# EAGLE library part APS_HPC_M (library flipbit_fmc)
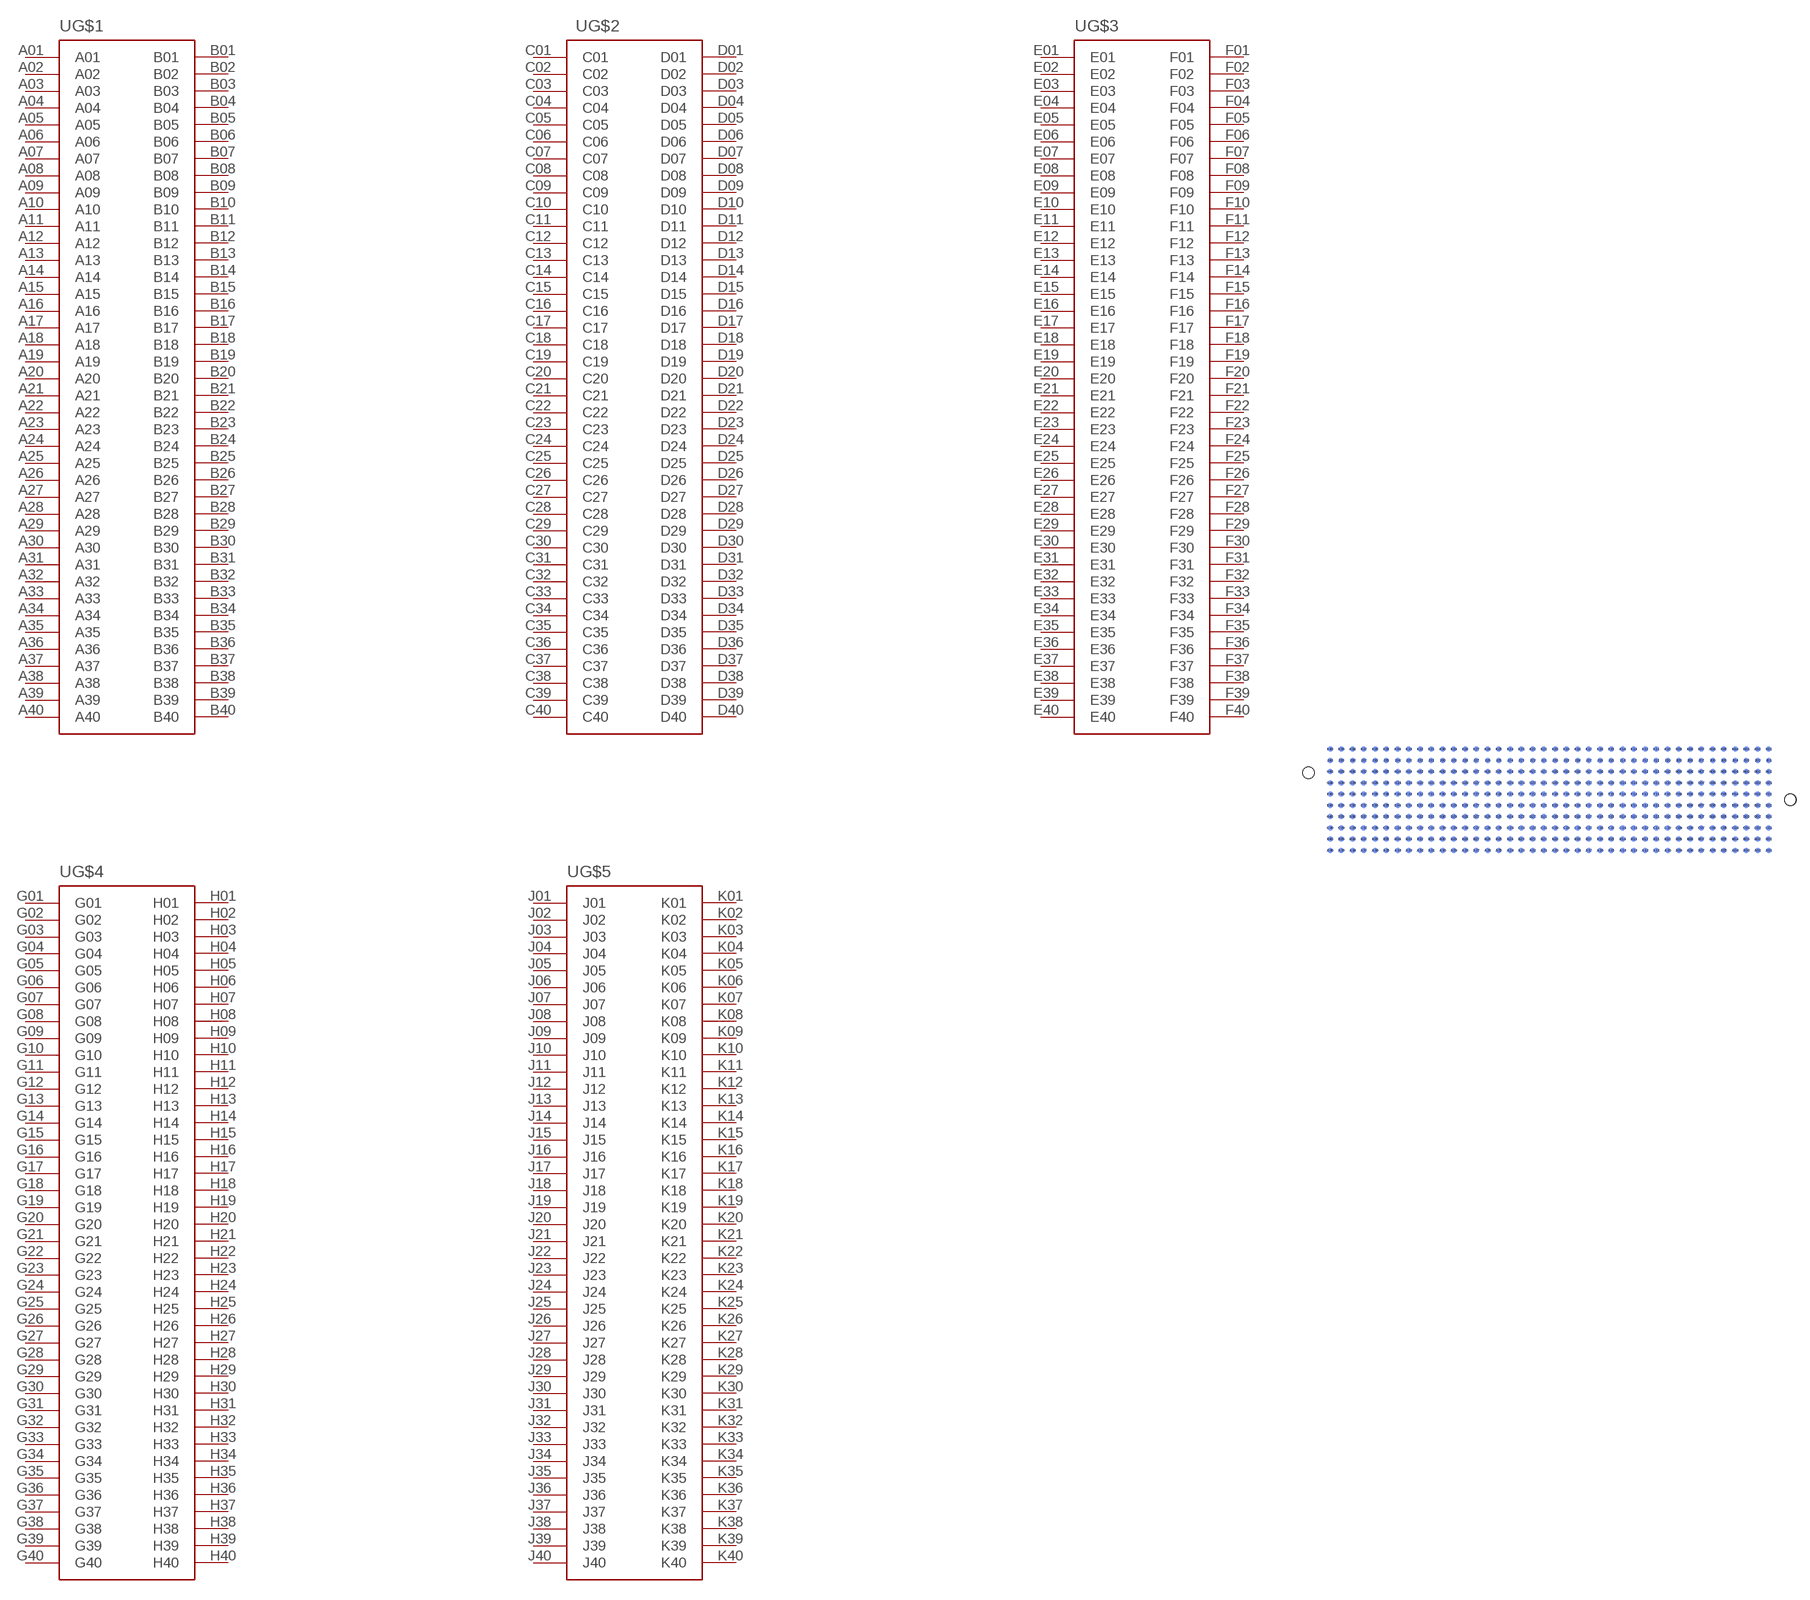
[diagram p3: symbol with the pads of ASP-134488-01; footprint ASP-134488-01]

Designator prefix -; gates G$1=ASP_AB G$2=ASP_CD G$3=ASP_EF G$4=ASP_GH G$5=ASP_JK

## APS_HPC_M  [ASP-134488-01]
A01  G$1:A01
A02  G$1:A02
A03  G$1:A03
A04  G$1:A04
A05  G$1:A05
A06  G$1:A06
A07  G$1:A07
A08  G$1:A08
A09  G$1:A09
A10  G$1:A10
A11  G$1:A11
A12  G$1:A12
A13  G$1:A13
A14  G$1:A14
A15  G$1:A15
A16  G$1:A16
A17  G$1:A17
A18  G$1:A18
A19  G$1:A19
A20  G$1:A20
A21  G$1:A21
A22  G$1:A22
A23  G$1:A23
A24  G$1:A24
A25  G$1:A25
A26  G$1:A26
A27  G$1:A27
A28  G$1:A28
A29  G$1:A29
A30  G$1:A30
A31  G$1:A31
A32  G$1:A32
A33  G$1:A33
A34  G$1:A34
A35  G$1:A35
A36  G$1:A36
A37  G$1:A37
A38  G$1:A38
A39  G$1:A39
A40  G$1:A40
B01  G$1:B01
B02  G$1:B02
B03  G$1:B03
B04  G$1:B04
B05  G$1:B05
B06  G$1:B06
B07  G$1:B07
B08  G$1:B08
B09  G$1:B09
B10  G$1:B10
B11  G$1:B11
B12  G$1:B12
B13  G$1:B13
B14  G$1:B14
B15  G$1:B15
B16  G$1:B16
B17  G$1:B17
B18  G$1:B18
B19  G$1:B19
B20  G$1:B20
B21  G$1:B21
B22  G$1:B22
B23  G$1:B23
B24  G$1:B24
B25  G$1:B25
B26  G$1:B26
B27  G$1:B27
B28  G$1:B28
B29  G$1:B29
B30  G$1:B30
B31  G$1:B31
B32  G$1:B32
B33  G$1:B33
B34  G$1:B34
B35  G$1:B35
B36  G$1:B36
B37  G$1:B37
B38  G$1:B38
B39  G$1:B39
B40  G$1:B40
C01  G$2:C01
C02  G$2:C02
C03  G$2:C03
C04  G$2:C04
C05  G$2:C05
C06  G$2:C06
C07  G$2:C07
C08  G$2:C08
C09  G$2:C09
C10  G$2:C10
C11  G$2:C11
C12  G$2:C12
C13  G$2:C13
C14  G$2:C14
C15  G$2:C15
C16  G$2:C16
C17  G$2:C17
C18  G$2:C18
C19  G$2:C19
C20  G$2:C20
C21  G$2:C21
C22  G$2:C22
C23  G$2:C23
C24  G$2:C24
C25  G$2:C25
C26  G$2:C26
C27  G$2:C27
C28  G$2:C28
C29  G$2:C29
C30  G$2:C30
C31  G$2:C31
C32  G$2:C32
C33  G$2:C33
C34  G$2:C34
C35  G$2:C35
C36  G$2:C36
C37  G$2:C37
C38  G$2:C38
C39  G$2:C39
C40  G$2:C40
D01  G$2:D01
D02  G$2:D02
D03  G$2:D03
D04  G$2:D04
D05  G$2:D05
D06  G$2:D06
D07  G$2:D07
D08  G$2:D08
D09  G$2:D09
D10  G$2:D10
D11  G$2:D11
D12  G$2:D12
D13  G$2:D13
D14  G$2:D14
D15  G$2:D15
D16  G$2:D16
D17  G$2:D17
D18  G$2:D18
D19  G$2:D19
D20  G$2:D20
D21  G$2:D21
D22  G$2:D22
D23  G$2:D23
D24  G$2:D24
D25  G$2:D25
D26  G$2:D26
D27  G$2:D27
D28  G$2:D28
D29  G$2:D29
D30  G$2:D30
D31  G$2:D31
D32  G$2:D32
D33  G$2:D33
D34  G$2:D34
D35  G$2:D35
D36  G$2:D36
D37  G$2:D37
D38  G$2:D38
D39  G$2:D39
D40  G$2:D40
E01  G$3:E01
E02  G$3:E02
E03  G$3:E03
E04  G$3:E04
E05  G$3:E05
E06  G$3:E06
E07  G$3:E07
E08  G$3:E08
E09  G$3:E09
E10  G$3:E10
E11  G$3:E11
E12  G$3:E12
E13  G$3:E13
E14  G$3:E14
E15  G$3:E15
E16  G$3:E16
E17  G$3:E17
E18  G$3:E18
E19  G$3:E19
E20  G$3:E20
E21  G$3:E21
E22  G$3:E22
E23  G$3:E23
E24  G$3:E24
E25  G$3:E25
E26  G$3:E26
E27  G$3:E27
E28  G$3:E28
E29  G$3:E29
E30  G$3:E30
E31  G$3:E31
E32  G$3:E32
E33  G$3:E33
E34  G$3:E34
E35  G$3:E35
E36  G$3:E36
E37  G$3:E37
E38  G$3:E38
E39  G$3:E39
E40  G$3:E40
F01  G$3:F01
F02  G$3:F02
F03  G$3:F03
F04  G$3:F04
F05  G$3:F05
F06  G$3:F06
F07  G$3:F07
F08  G$3:F08
F09  G$3:F09
F10  G$3:F10
F11  G$3:F11
F12  G$3:F12
F13  G$3:F13
F14  G$3:F14
F15  G$3:F15
F16  G$3:F16
F17  G$3:F17
F18  G$3:F18
F19  G$3:F19
F20  G$3:F20
F21  G$3:F21
F22  G$3:F22
F23  G$3:F23
F24  G$3:F24
F25  G$3:F25
F26  G$3:F26
F27  G$3:F27
F28  G$3:F28
F29  G$3:F29
F30  G$3:F30
F31  G$3:F31
F32  G$3:F32
F33  G$3:F33
F34  G$3:F34
F35  G$3:F35
F36  G$3:F36
F37  G$3:F37
F38  G$3:F38
F39  G$3:F39
F40  G$3:F40
G01  G$4:G01
G02  G$4:G02
G03  G$4:G03
G04  G$4:G04
G05  G$4:G05
G06  G$4:G06
G07  G$4:G07
G08  G$4:G08
G09  G$4:G09
G10  G$4:G10
G11  G$4:G11
G12  G$4:G12
G13  G$4:G13
G14  G$4:G14
G15  G$4:G15
G16  G$4:G16
G17  G$4:G17
G18  G$4:G18
G19  G$4:G19
G20  G$4:G20
G21  G$4:G21
G22  G$4:G22
G23  G$4:G23
G24  G$4:G24
G25  G$4:G25
G26  G$4:G26
G27  G$4:G27
G28  G$4:G28
G29  G$4:G29
G30  G$4:G30
G31  G$4:G31
G32  G$4:G32
G33  G$4:G33
G34  G$4:G34
G35  G$4:G35
G36  G$4:G36
G37  G$4:G37
G38  G$4:G38
G39  G$4:G39
G40  G$4:G40
H01  G$4:H01
H02  G$4:H02
H03  G$4:H03
H04  G$4:H04
H05  G$4:H05
H06  G$4:H06
H07  G$4:H07
H08  G$4:H08
H09  G$4:H09
H10  G$4:H10
H11  G$4:H11
H12  G$4:H12
H13  G$4:H13
H14  G$4:H14
H15  G$4:H15
H16  G$4:H16
H17  G$4:H17
H18  G$4:H18
H19  G$4:H19
H20  G$4:H20
H21  G$4:H21
H22  G$4:H22
H23  G$4:H23
H24  G$4:H24
H25  G$4:H25
H26  G$4:H26
H27  G$4:H27
H28  G$4:H28
H29  G$4:H29
H30  G$4:H30
H31  G$4:H31
H32  G$4:H32
H33  G$4:H33
H34  G$4:H34
H35  G$4:H35
H36  G$4:H36
H37  G$4:H37
H38  G$4:H38
H39  G$4:H39
H40  G$4:H40
J01  G$5:J01
J02  G$5:J02
J03  G$5:J03
J04  G$5:J04
J05  G$5:J05
J06  G$5:J06
J07  G$5:J07
J08  G$5:J08
J09  G$5:J09
J10  G$5:J10
J11  G$5:J11
J12  G$5:J12
J13  G$5:J13
J14  G$5:J14
J15  G$5:J15
J16  G$5:J16
J17  G$5:J17
J18  G$5:J18
J19  G$5:J19
J20  G$5:J20
J21  G$5:J21
J22  G$5:J22
J23  G$5:J23
J24  G$5:J24
J25  G$5:J25
J26  G$5:J26
J27  G$5:J27
J28  G$5:J28
J29  G$5:J29
J30  G$5:J30
J31  G$5:J31
J32  G$5:J32
J33  G$5:J33
J34  G$5:J34
J35  G$5:J35
J36  G$5:J36
J37  G$5:J37
J38  G$5:J38
J39  G$5:J39
J40  G$5:J40
K01  G$5:K01
K02  G$5:K02
K03  G$5:K03
K04  G$5:K04
K05  G$5:K05
K06  G$5:K06
K07  G$5:K07
K08  G$5:K08
K09  G$5:K09
K10  G$5:K10
K11  G$5:K11
K12  G$5:K12
K13  G$5:K13
K14  G$5:K14
K15  G$5:K15
K16  G$5:K16
K17  G$5:K17
K18  G$5:K18
K19  G$5:K19
K20  G$5:K20
K21  G$5:K21
K22  G$5:K22
K23  G$5:K23
K24  G$5:K24
K25  G$5:K25
K26  G$5:K26
K27  G$5:K27
K28  G$5:K28
K29  G$5:K29
K30  G$5:K30
K31  G$5:K31
K32  G$5:K32
K33  G$5:K33
K34  G$5:K34
K35  G$5:K35
K36  G$5:K36
K37  G$5:K37
K38  G$5:K38
K39  G$5:K39
K40  G$5:K40

## Footprint ASP-134488-01 (pad centres in mm)
smd 0.635 x 0.635 bottom: A01 24.765,-5.715; A02 23.495,-5.715; A03 22.225,-5.715; A04 20.955,-5.715; A05 19.685,-5.715; A06 18.415,-5.715; A07 17.145,-5.715; A08 15.875,-5.715; A09 14.605,-5.715; A10 13.335,-5.715; A11 12.065,-5.715; A12 10.795,-5.715; A13 9.525,-5.715; A14 8.255,-5.715; A15 6.985,-5.715; A16 5.715,-5.715; A17 4.445,-5.715; A18 3.175,-5.715; A19 1.905,-5.715; A20 0.635,-5.715; A21 -0.635,-5.715; A22 -1.905,-5.715; A23 -3.175,-5.715; A24 -4.445,-5.715; A25 -5.715,-5.715; A26 -6.985,-5.715; A27 -8.255,-5.715; A28 -9.525,-5.715; A29 -10.795,-5.715; A30 -12.065,-5.715; A31 -13.335,-5.715; A32 -14.605,-5.715; A33 -15.875,-5.715; A34 -17.145,-5.715; A35 -18.415,-5.715; A36 -19.685,-5.715; A37 -20.955,-5.715; A38 -22.225,-5.715; A39 -23.495,-5.715; A40 -24.765,-5.715; B01 24.765,-4.445; B02 23.495,-4.445; B03 22.225,-4.445; B04 20.955,-4.445; B05 19.685,-4.445; B06 18.415,-4.445; B07 17.145,-4.445; B08 15.875,-4.445; B09 14.605,-4.445; B10 13.335,-4.445; B11 12.065,-4.445; B12 10.795,-4.445; B13 9.525,-4.445; B14 8.255,-4.445; B15 6.985,-4.445; B16 5.715,-4.445; B17 4.445,-4.445; B18 3.175,-4.445; B19 1.905,-4.445; B20 0.635,-4.445; B21 -0.635,-4.445; B22 -1.905,-4.445; B23 -3.175,-4.445; B24 -4.445,-4.445; B25 -5.715,-4.445; B26 -6.985,-4.445; B27 -8.255,-4.445; B28 -9.525,-4.445; B29 -10.795,-4.445; B30 -12.065,-4.445; B31 -13.335,-4.445; B32 -14.605,-4.445; B33 -15.875,-4.445; B34 -17.145,-4.445; B35 -18.415,-4.445; B36 -19.685,-4.445; B37 -20.955,-4.445; B38 -22.225,-4.445; B39 -23.495,-4.445; B40 -24.765,-4.445; C01 24.765,-3.175; C02 23.495,-3.175; C03 22.225,-3.175; C04 20.955,-3.175; C05 19.685,-3.175; C06 18.415,-3.175; C07 17.145,-3.175; C08 15.875,-3.175; C09 14.605,-3.175; C10 13.335,-3.175; C11 12.065,-3.175; C12 10.795,-3.175; C13 9.525,-3.175; C14 8.255,-3.175; C15 6.985,-3.175; C16 5.715,-3.175; C17 4.445,-3.175; C18 3.175,-3.175; C19 1.905,-3.175; C20 0.635,-3.175; C21 -0.635,-3.175; C22 -1.905,-3.175; C23 -3.175,-3.175; C24 -4.445,-3.175; C25 -5.715,-3.175; C26 -6.985,-3.175; C27 -8.255,-3.175; C28 -9.525,-3.175; C29 -10.795,-3.175; C30 -12.065,-3.175; C31 -13.335,-3.175; C32 -14.605,-3.175; C33 -15.875,-3.175; C34 -17.145,-3.175; C35 -18.415,-3.175; C36 -19.685,-3.175; C37 -20.955,-3.175; C38 -22.225,-3.175; C39 -23.495,-3.175; C40 -24.765,-3.175; D01 24.765,-1.905; D02 23.495,-1.905; D03 22.225,-1.905; D04 20.955,-1.905; D05 19.685,-1.905; D06 18.415,-1.905; D07 17.145,-1.905; D08 15.875,-1.905; D09 14.605,-1.905; D10 13.335,-1.905; D11 12.065,-1.905; D12 10.795,-1.905; D13 9.525,-1.905; D14 8.255,-1.905; D15 6.985,-1.905; D16 5.715,-1.905; D17 4.445,-1.905; D18 3.175,-1.905; D19 1.905,-1.905; D20 0.635,-1.905; D21 -0.635,-1.905; D22 -1.905,-1.905; D23 -3.175,-1.905; D24 -4.445,-1.905; D25 -5.715,-1.905; D26 -6.985,-1.905; D27 -8.255,-1.905; D28 -9.525,-1.905; D29 -10.795,-1.905; D30 -12.065,-1.905; D31 -13.335,-1.905; D32 -14.605,-1.905; D33 -15.875,-1.905; D34 -17.145,-1.905; D35 -18.415,-1.905; D36 -19.685,-1.905; D37 -20.955,-1.905; D38 -22.225,-1.905; D39 -23.495,-1.905; D40 -24.765,-1.905; E01 24.765,-0.635; E02 23.495,-0.635; E03 22.225,-0.635; E04 20.955,-0.635; E05 19.685,-0.635; E06 18.415,-0.635; E07 17.145,-0.635; E08 15.875,-0.635; E09 14.605,-0.635; E10 13.335,-0.635; E11 12.065,-0.635; E12 10.795,-0.635; E13 9.525,-0.635; E14 8.255,-0.635; E15 6.985,-0.635; E16 5.715,-0.635; E17 4.445,-0.635; E18 3.175,-0.635; E19 1.905,-0.635; E20 0.635,-0.635; E21 -0.635,-0.635; E22 -1.905,-0.635; E23 -3.175,-0.635; E24 -4.445,-0.635; E25 -5.715,-0.635; E26 -6.985,-0.635; E27 -8.255,-0.635; E28 -9.525,-0.635; E29 -10.795,-0.635; E30 -12.065,-0.635; E31 -13.335,-0.635; E32 -14.605,-0.635; E33 -15.875,-0.635; E34 -17.145,-0.635; E35 -18.415,-0.635; E36 -19.685,-0.635; E37 -20.955,-0.635; E38 -22.225,-0.635; E39 -23.495,-0.635; E40 -24.765,-0.635; F01 24.765,0.635; F02 23.495,0.635; F03 22.225,0.635; F04 20.955,0.635; F05 19.685,0.635; F06 18.415,0.635; F07 17.145,0.635; F08 15.875,0.635; F09 14.605,0.635; F10 13.335,0.635; F11 12.065,0.635; F12 10.795,0.635; F13 9.525,0.635; F14 8.255,0.635; F15 6.985,0.635; F16 5.715,0.635; F17 4.445,0.635; F18 3.175,0.635; F19 1.905,0.635; F20 0.635,0.635; F21 -0.635,0.635; F22 -1.905,0.635; F23 -3.175,0.635; F24 -4.445,0.635; F25 -5.715,0.635; F26 -6.985,0.635; F27 -8.255,0.635; F28 -9.525,0.635; F29 -10.795,0.635; F30 -12.065,0.635; F31 -13.335,0.635; F32 -14.605,0.635; F33 -15.875,0.635; F34 -17.145,0.635; F35 -18.415,0.635; F36 -19.685,0.635; F37 -20.955,0.635; F38 -22.225,0.635; F39 -23.495,0.635; F40 -24.765,0.635; G01 24.765,1.905; G02 23.495,1.905; G03 22.225,1.905; G04 20.955,1.905; G05 19.685,1.905; G06 18.415,1.905; G07 17.145,1.905; G08 15.875,1.905; G09 14.605,1.905; G10 13.335,1.905; G11 12.065,1.905; G12 10.795,1.905; G13 9.525,1.905; G14 8.255,1.905; G15 6.985,1.905; G16 5.715,1.905; G17 4.445,1.905; G18 3.175,1.905; G19 1.905,1.905; G20 0.635,1.905; G21 -0.635,1.905; G22 -1.905,1.905; G23 -3.175,1.905; G24 -4.445,1.905; G25 -5.715,1.905; G26 -6.985,1.905; G27 -8.255,1.905; G28 -9.525,1.905; G29 -10.795,1.905; G30 -12.065,1.905; G31 -13.335,1.905; G32 -14.605,1.905; G33 -15.875,1.905; G34 -17.145,1.905; G35 -18.415,1.905; G36 -19.685,1.905; G37 -20.955,1.905; G38 -22.225,1.905; G39 -23.495,1.905; G40 -24.765,1.905; H01 24.765,3.175; H02 23.495,3.175; H03 22.225,3.175; H04 20.955,3.175; H05 19.685,3.175; H06 18.415,3.175; H07 17.145,3.175; H08 15.875,3.175; H09 14.605,3.175; H10 13.335,3.175; H11 12.065,3.175; H12 10.795,3.175; H13 9.525,3.175; H14 8.255,3.175; H15 6.985,3.175; H16 5.715,3.175; H17 4.445,3.175; H18 3.175,3.175; H19 1.905,3.175; H20 0.635,3.175; H21 -0.635,3.175; H22 -1.905,3.175; H23 -3.175,3.175; H24 -4.445,3.175; H25 -5.715,3.175; H26 -6.985,3.175; H27 -8.255,3.175; H28 -9.525,3.175; H29 -10.795,3.175; H30 -12.065,3.175; H31 -13.335,3.175; H32 -14.605,3.175; H33 -15.875,3.175; H34 -17.145,3.175; H35 -18.415,3.175; H36 -19.685,3.175; H37 -20.955,3.175; H38 -22.225,3.175; H39 -23.495,3.175; H40 -24.765,3.175; J01 24.765,4.445; J02 23.495,4.445; J03 22.225,4.445; J04 20.955,4.445; J05 19.685,4.445; J06 18.415,4.445; J07 17.145,4.445; J08 15.875,4.445; J09 14.605,4.445; J10 13.335,4.445; J11 12.065,4.445; J12 10.795,4.445; J13 9.525,4.445; J14 8.255,4.445; J15 6.985,4.445; J16 5.715,4.445; J17 4.445,4.445; J18 3.175,4.445; J19 1.905,4.445; J20 0.635,4.445; J21 -0.635,4.445; J22 -1.905,4.445; J23 -3.175,4.445; J24 -4.445,4.445; J25 -5.715,4.445; J26 -6.985,4.445; J27 -8.255,4.445; J28 -9.525,4.445; J29 -10.795,4.445; J30 -12.065,4.445; J31 -13.335,4.445; J32 -14.605,4.445; J33 -15.875,4.445; J34 -17.145,4.445; J35 -18.415,4.445; J36 -19.685,4.445; J37 -20.955,4.445; J38 -22.225,4.445; J39 -23.495,4.445; J40 -24.765,4.445; K01 24.765,5.715; K02 23.495,5.715; K03 22.225,5.715; K04 20.955,5.715; K05 19.685,5.715; K06 18.415,5.715; K07 17.145,5.715; K08 15.875,5.715; K09 14.605,5.715; K10 13.335,5.715; K11 12.065,5.715; K12 10.795,5.715; K13 9.525,5.715; K14 8.255,5.715; K15 6.985,5.715; K16 5.715,5.715; K17 4.445,5.715; K18 3.175,5.715; K19 1.905,5.715; K20 0.635,5.715; K21 -0.635,5.715; K22 -1.905,5.715; K23 -3.175,5.715; K24 -4.445,5.715; K25 -5.715,5.715; K26 -6.985,5.715; K27 -8.255,5.715; K28 -9.525,5.715; K29 -10.795,5.715; K30 -12.065,5.715; K31 -13.335,5.715; K32 -14.605,5.715; K33 -15.875,5.715; K34 -17.145,5.715; K35 -18.415,5.715; K36 -19.685,5.715; K37 -20.955,5.715; K38 -22.225,5.715; K39 -23.495,5.715; K40 -24.765,5.715
hole 1.27 at 27.191,0
hole 1.27 at 27.191,0
hole 1.321 at 27.191,0
hole 1.321 at -27.191,3.048